# Altium schematic symbol library Zaya Schematic Library.SchLib: 29 symbols
Pins are listed as number, name and electrical type; pins without a type are passive.

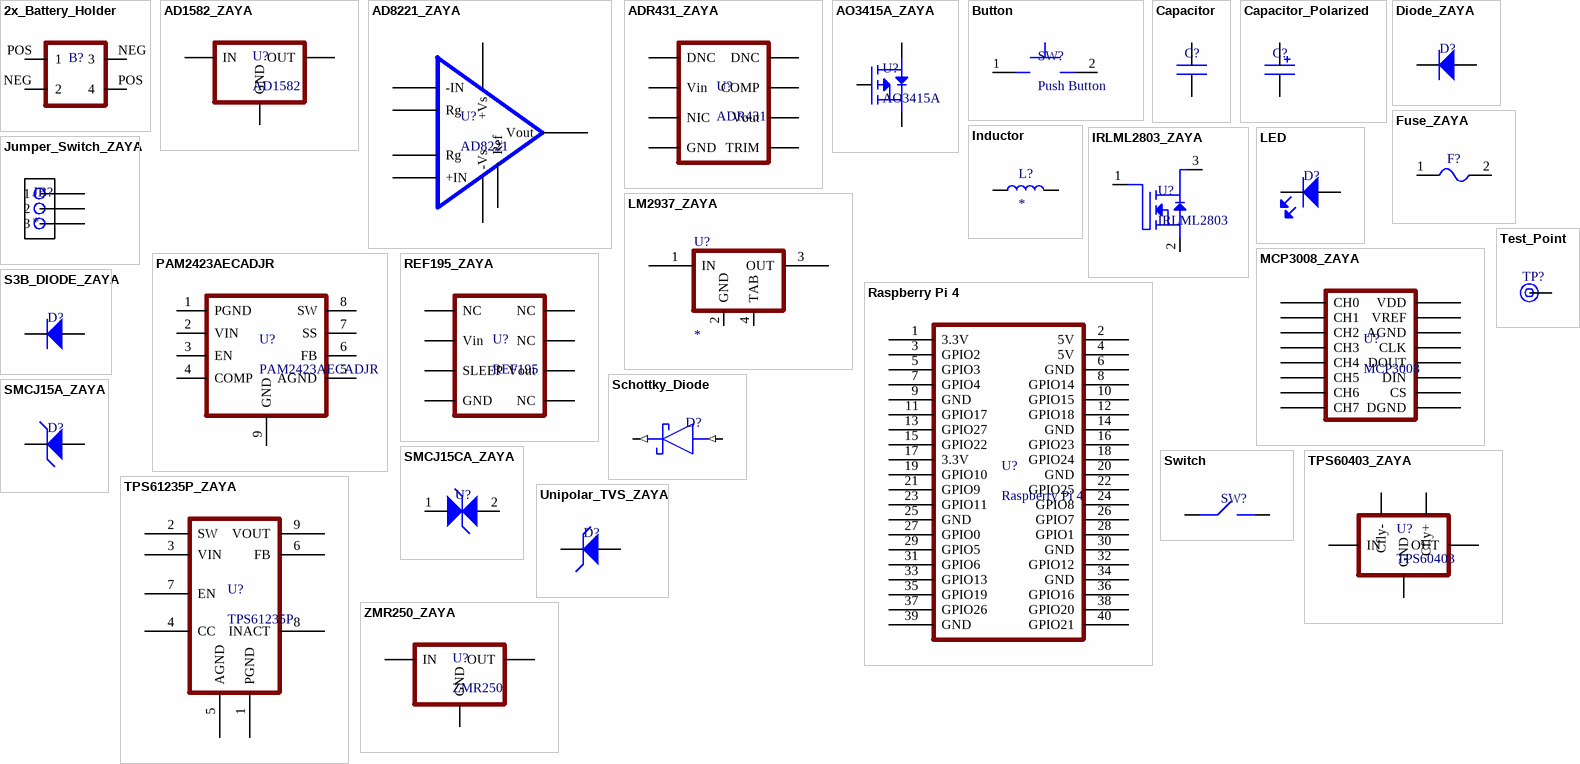
[diagram p0: symbols 2x_Battery_Holder to ZMR250_ZAYA]

## 2x_Battery_Holder
designator B?  (value not drawn)
pins: NEG 2, NEG 3, POS 1, POS 4

## AD1582_ZAYA
designator U?, comment AD1582
pins: 1 OUT, 2 GND, 3 IN

## AD8221_ZAYA
designator U?, comment AD8221
pins: 1 -IN, 2 Rg, 3 Rg, 4 +IN, 5 -Vs, 6 Ref, 7 Vout, 8 +Vs

## ADR431_ZAYA
designator U?, comment ADR431
pins: 1 DNC, 2 Vin, 3 NIC, 4 GND, 5 TRIM, 6 Vout, 7 COMP, 8 DNC

## AO3415A_ZAYA
designator U?, comment AO3415A
pins: 1 G, 2 S, 3 D

## Button
designator SW?, comment Push Button
pins: 1, 2

## Capacitor
designator C?  (value not drawn)
pins: 1, 2

## Capacitor_Polarized
designator C?  (value not drawn)
pins: 1, 2

## Diode_ZAYA
designator D?  (value not drawn)
pins: ANOD Anode, CATH Cathode

## Fuse_ZAYA
designator F?  (value not drawn)
pins: 1, 2

## Inductor
designator L?
pins: 1, 2

## IRLML2803_ZAYA
designator U?, comment IRLML2803
pins: 1 G, 2 S, 3 D

## Jumper_Switch_ZAYA
designator JB?
pins: 1, 2, 3

## LED
designator D?  (value not drawn)
pins: ANOD Anode, CATH Cathode

## LM2937_ZAYA
designator U?
pins: 1 IN, 2 GND, 3 OUT, 4 TAB

## MCP3008_ZAYA
designator U?, comment MCP3008
pins: 1 CH0, 2 CH1, 3 CH2, 4 CH3, 5 CH4, 6 CH5, 7 CH6, 8 CH7, 9 DGND, 10 CS, 11 DIN, 12 DOUT, 13 CLK, 14 AGND, 15 VREF, 16 VDD

## PAM2423AECADJR
designator U?
pins: 1 PGND, 2 VIN, 3 EN, 4 COMP, 5 AGND, 6 FB, 7 SS, 8 SW, 9 GND

## Raspberry Pi 4
designator U?
pins: 1 3.3V, 2 5V, 3 GPIO2, 4 5V, 5 GPIO3, 6 GND, 7 GPIO4, 8 GPIO14, 9 GND, 10 GPIO15, 11 GPIO17, 12 GPIO18, 13 GPIO27, 14 GND, 15 GPIO22, 16 GPIO23, 17 3.3V, 18 GPIO24, 19 GPIO10, 20 GND, 21 GPIO9, 22 GPIO25, 23 GPIO11, 24 GPIO8, 25 GND, 26 GPIO7, 27 GPIO0, 28 GPIO1, 29 GPIO5, 30 GND, 31 GPIO6, 32 GPIO12, 33 GPIO13, 34 GND, 35 GPIO19, 36 GPIO16, 37 GPIO26, 38 GPIO20, 39 GND, 40 GPIO21

## REF195_ZAYA
designator U?, comment REF195
pins: 1 NC, 2 Vin, 3 SLEEP, 4 GND, 5 NC, 6 Vout, 7 NC, 8 NC

## S3B_DIODE_ZAYA
designator D?  (value not drawn)
pins: ANOD Anode, CATH Cathode

## Schottky_Diode
designator D?  (value not drawn)
pins: 1 K (out), 2 A (in)

## SMCJ15A_ZAYA
designator D?  (value not drawn)
pins: ANOD Anode, CATH Cathode

## SMCJ15CA_ZAYA
designator U?  (value not drawn)
pins: 1, 2

## Switch
designator SW?  (value not drawn)
pins: 1, 2

## Test_Point
designator TP?  (value not drawn)
pins: 1

## TPS60403_ZAYA
designator U?, comment TPS60403
pins: 1 OUT, 2 IN, 3 Cfly-, 4 GND, 5 Cfly+

## TPS61235P_ZAYA
designator U?, comment TPS61235P
pins: 1 PGND, 2 SW, 3 VIN, 4 CC, 5 AGND, 6 FB, 7 EN, 8 INACT, 9 VOUT

## Unipolar_TVS_ZAYA
designator D?  (value not drawn)
pins: ANOD Anode, CATH Cathode

## ZMR250_ZAYA
designator U?, comment ZMR250
pins: 1 GND, 2 OUT, 3 IN